# Altium schematic symbol library PMOS_SOT23.SchLib: 1 symbol
Pins are listed as number, name and electrical type; pins without a type are passive.

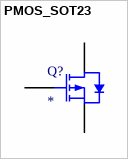
[diagram p0: symbol PMOS_SOT23]

## PMOS_SOT23
designator Q?
pins: 1 G, 2 S, 3 D